# Altium schematic symbol library MFR-25FBF52-140R.SchLib: 2 symbols
Pins are listed as number, name and electrical type; pins without a type are passive.

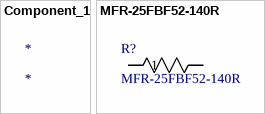
[diagram p0: symbols Component_1 to MFR-25FBF52-140R]

## Component_1
designator *

## MFR-25FBF52-140R
designator R?
No Description Available; Mfr_Name: Yageo; Copyright: Copyright (C) 2022 Ultra Librarian. All rights reserved.; Manufacturer_Part_Number: MFR-25FBF52-140R; Digi-Key_Part_Number_1: 140XBK-ND; RefDes: RefDes; Type: DEV
footprint YAG_MF25_YAG
pins: 1, 2